# Altium footprint library SIMCard.PcbLib: 1 footprints
Each footprint in its own frame and in the unit in brackets; x right, y up, seen from the top. Pads: shape width x height; smd on the part's side, far side on the other; paste and mask are expansions set on the pad; w line width, h text height; cw(c..) or ccw(c..) is an arc to the next point about the centre after c.
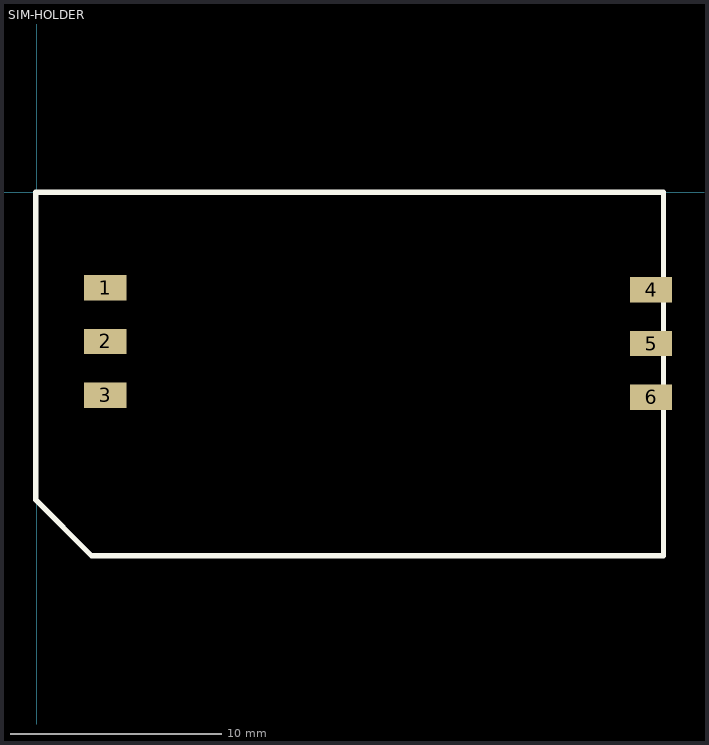
[diagram p0: the footprint, top view; thin cyan lines are the x and y axes]

## SIM-HOLDER [mm]
pads (6):
  rect 2x1.2 smd: 1(3.24,-4.52) 2(3.24,-7.06) 3(3.24,-9.6) 4(29.06,-4.62) 5(29.06,-7.16) 6(29.06,-9.7)
Top Overlay:
  lines w0.254: -0.05,-14.555 -0.05,0 29.65,0 29.65,-17.2 2.595,-17.2 -0.05,-14.555